# EAGLE library part AT91SAM7X (library lib_stankus)
Atmel AT91SAM7X MCU
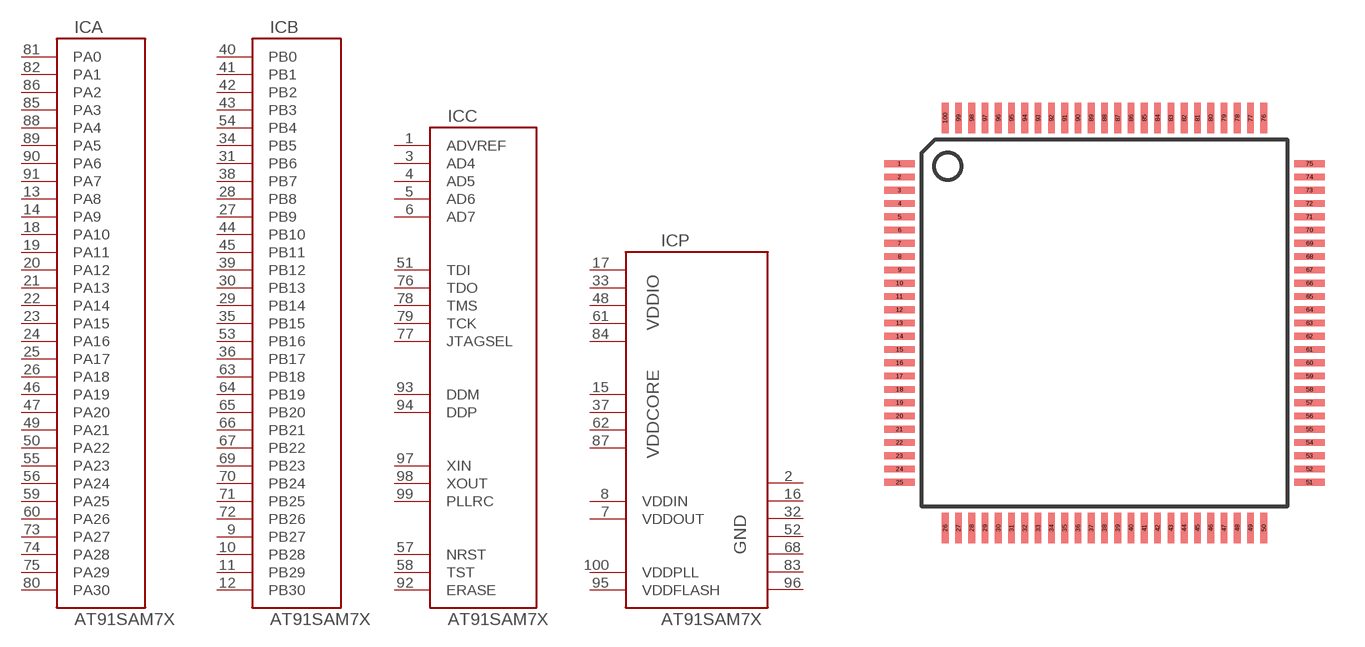
[diagram p0: symbol with the pads of QFP100_14_05; footprint QFP100_14_05]

Designator prefix IC; gates A=AT91SAM7X_IOA B=AT91SAM7X_IOB C=AT91SAM7X_IOAUX P=AT91SAM7X_PWR

## AT91SAM7X-QFP100  [QFP100_14_05]
1  C:ADVREF  pas
2  P:GND  pas
3  C:AD4  pas
4  C:AD5  pas
5  C:AD6  pas
6  C:AD7  pas
7  P:VDDOUT  pas
8  P:VDDIN  pas
9  B:PB27  pas
10  B:PB28  pas
11  B:PB29  pas
12  B:PB30  pas
13  A:PA8  pas
14  A:PA9  pas
15  P:VDDCORE  pas
16  P:GND  pas
17  P:VDDIO  pas
18  A:PA10  pas
19  A:PA11  pas
20  A:PA12  pas
21  A:PA13  pas
22  A:PA14  pas
23  A:PA15  pas
24  A:PA16  pas
25  A:PA17  pas
26  A:PA18  pas
27  B:PB9  pas
28  B:PB8  pas
29  B:PB14  pas
30  B:PB13  pas
31  B:PB6  pas
32  P:GND  pas
33  P:VDDIO  pas
34  B:PB5  pas
35  B:PB15  pas
36  B:PB17  pas
37  P:VDDCORE  pas
38  B:PB7  pas
39  B:PB12  pas
40  B:PB0  pas
41  B:PB1  pas
42  B:PB2  pas
43  B:PB3  pas
44  B:PB10  pas
45  B:PB11  pas
46  A:PA19  pas
47  A:PA20  pas
48  P:VDDIO  pas
49  A:PA21  pas
50  A:PA22  pas
51  C:TDI  pas
52  P:GND  pas
53  B:PB16  pas
54  B:PB4  pas
55  A:PA23  pas
56  A:PA24  pas
57  C:NRST  pas
58  C:TST  pas
59  A:PA25  pas
60  A:PA26  pas
61  P:VDDIO  pas
62  P:VDDCORE  pas
63  B:PB18  pas
64  B:PB19  pas
65  B:PB20  pas
66  B:PB21  pas
67  B:PB22  pas
68  P:GND  pas
69  B:PB23  pas
70  B:PB24  pas
71  B:PB25  pas
72  B:PB26  pas
73  A:PA27  pas
74  A:PA28  pas
75  A:PA29  pas
76  C:TDO  pas
77  C:JTAGSEL  pas
78  C:TMS  pas
79  C:TCK  pas
80  A:PA30  pas
81  A:PA0  pas
82  A:PA1  pas
83  P:GND  pas
84  P:VDDIO  pas
85  A:PA3  pas
86  A:PA2  pas
87  P:VDDCORE  pas
88  A:PA4  pas
89  A:PA5  pas
90  A:PA6  pas
91  A:PA7  pas
92  C:ERASE  pas
93  C:DDM  pas
94  C:DDP  pas
95  P:VDDFLASH  pas
96  P:GND  pas
97  C:XIN  pas
98  C:XOUT  pas
99  C:PLLRC  pas
100  P:VDDPLL  pas

## Footprint QFP100_14_05 (pad centres in mm)
QFP100, 14x14 MM, 0.5 MM
smd 1.143 x 0.254: 1 -7.72,6; 2 -7.72,5.5; 3 -7.72,5; 4 -7.72,4.5; 5 -7.72,4; 6 -7.72,3.5; 7 -7.72,3; 8 -7.72,2.5; 9 -7.72,2; 10 -7.72,1.5; 11 -7.72,1; 12 -7.72,0.5; 13 -7.72,0; 14 -7.72,-0.5; 15 -7.72,-1; 16 -7.72,-1.5; 17 -7.72,-2; 18 -7.72,-2.5; 19 -7.72,-3; 20 -7.72,-3.5; 21 -7.72,-4; 22 -7.72,-4.5; 23 -7.72,-5; 24 -7.72,-5.5; 25 -7.72,-6; 51 7.72,-6; 52 7.72,-5.5; 53 7.72,-5; 54 7.72,-4.5; 55 7.72,-4; 56 7.72,-3.5; 57 7.72,-3; 58 7.72,-2.5; 59 7.72,-2; 60 7.72,-1.5; 61 7.72,-1; 62 7.72,-0.5; 63 7.72,0; 64 7.72,0.5; 65 7.72,1; 66 7.72,1.5; 67 7.72,2; 68 7.72,2.5; 69 7.72,3; 70 7.72,3.5; 71 7.72,4; 72 7.72,4.5; 73 7.72,5; 74 7.72,5.5; 75 7.72,6
smd 0.254 x 1.143: 26 -6,-7.72; 27 -5.5,-7.72; 28 -5,-7.72; 29 -4.5,-7.72; 30 -4,-7.72; 31 -3.5,-7.72; 32 -3,-7.72; 33 -2.5,-7.72; 34 -2,-7.72; 35 -1.5,-7.72; 36 -1,-7.72; 37 -0.5,-7.72; 38 0,-7.72; 39 0.5,-7.72; 40 1,-7.72; 41 1.5,-7.72; 42 2,-7.72; 43 2.5,-7.72; 44 3,-7.72; 45 3.5,-7.72; 46 4,-7.72; 47 4.5,-7.72; 48 5,-7.72; 49 5.5,-7.72; 50 6,-7.72; 76 6,7.72; 77 5.5,7.72; 78 5,7.72; 79 4.5,7.72; 80 4,7.72; 81 3.5,7.72; 82 3,7.72; 83 2.5,7.72; 84 2,7.72; 85 1.5,7.72; 86 1,7.72; 87 0.5,7.72; 88 0,7.72; 89 -0.5,7.72; 90 -1,7.72; 91 -1.5,7.72; 92 -2,7.72; 93 -2.5,7.72; 94 -3,7.72; 95 -3.5,7.72; 96 -4,7.72; 97 -4.5,7.72; 98 -5,7.72; 99 -5.5,7.72; 100 -6,7.72